# Altium schematic symbol library adapt.SchLib: 1 symbol
Pins are listed as number, name and electrical type; pins without a type are passive.

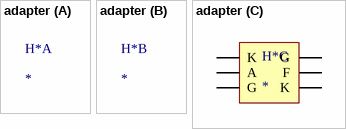
[diagram p0: symbol adapter]

## adapter
designator H*
footprint PCBComponent_1
part C pins: 1 K, 2 A, 3 G, 4 K, 5 F, 6 G